# Altium footprint library SamacSys.PcbLib: 23 footprints (part 1 of 2)
Each footprint in its own frame and in the unit in brackets; x right, y up, seen from the top. Pads: shape width x height; smd on the part's side, far side on the other; paste and mask are expansions set on the pad; w line width, h text height; cw(c..) or ccw(c..) is an arc to the next point about the centre after c.
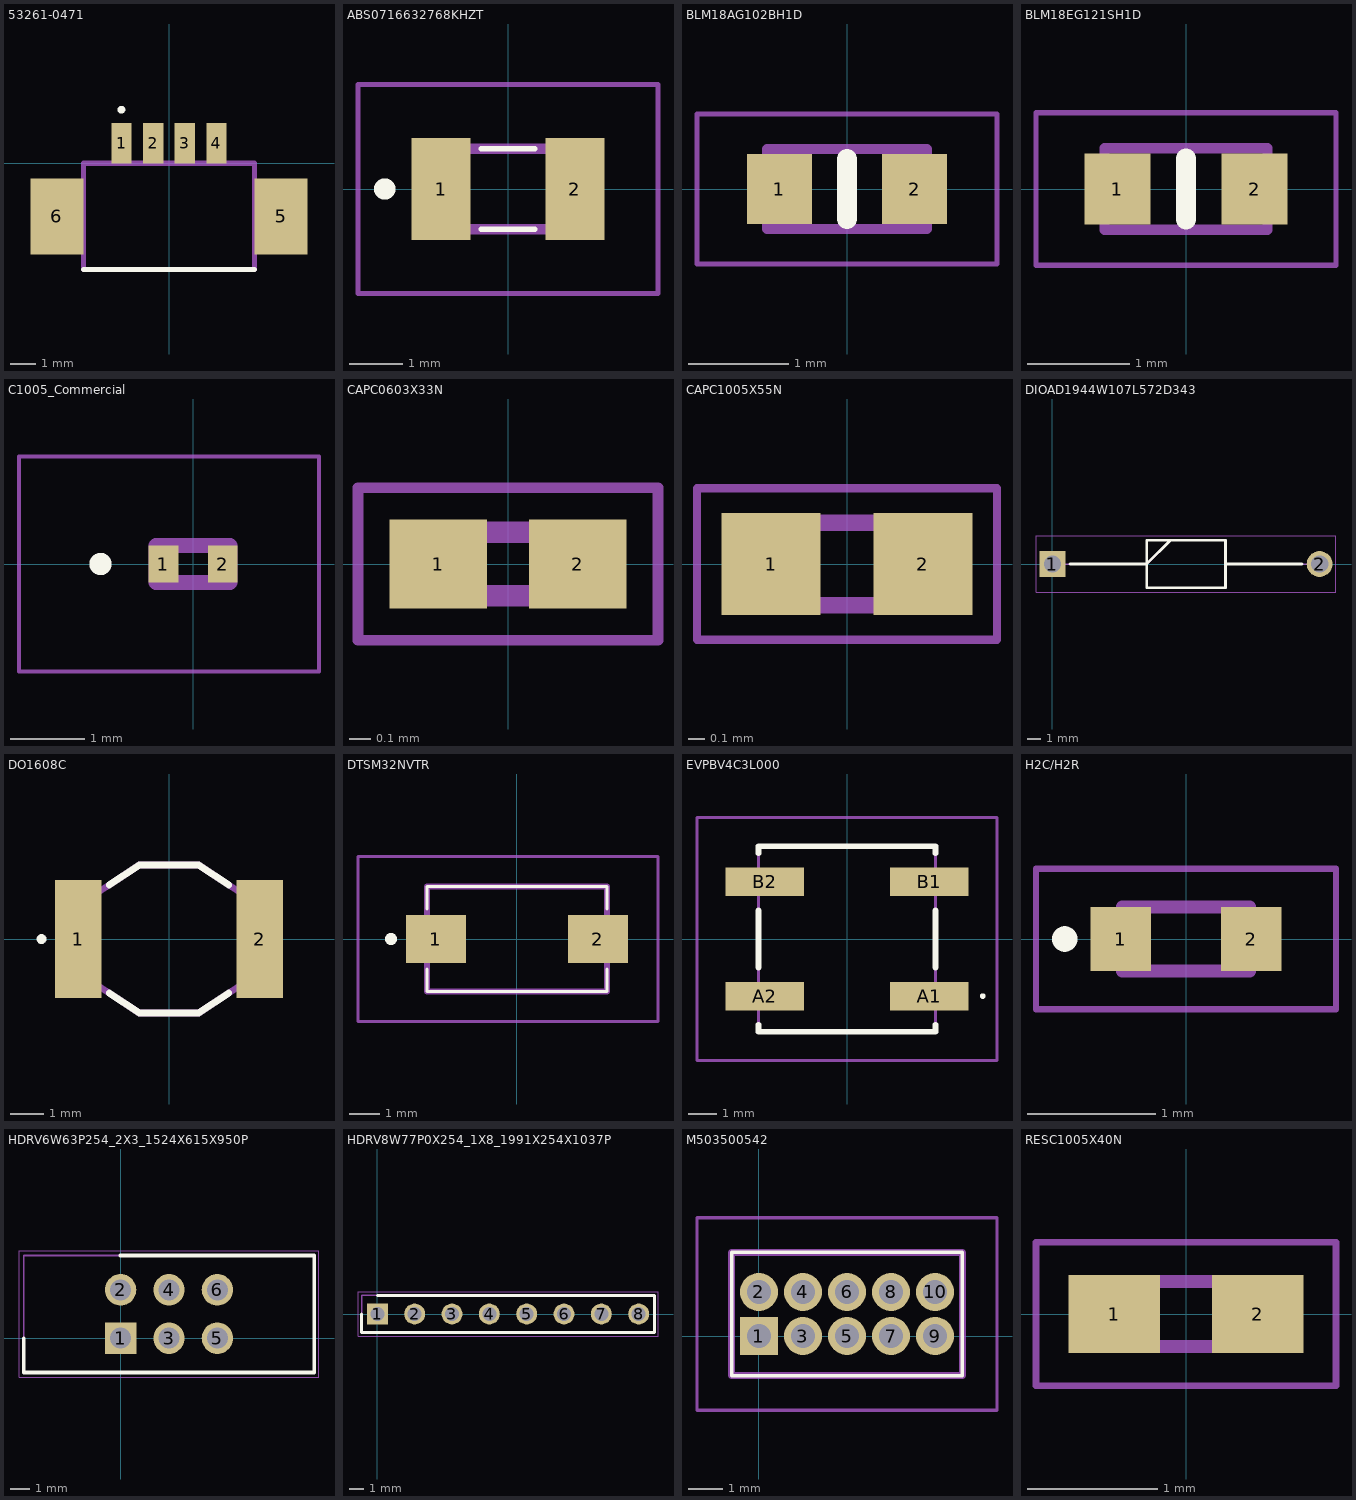
[diagram p0: the footprints below, top view; thin cyan lines are the x and y axes]

## 53261-0471 [mm]
pads (6):
  rect 0.8x1.6 smd: 1(-1.875,0.8) 2(-0.625,0.8) 3(0.625,0.8) 4(1.875,0.8)
  rect 2.1x3 smd: 5(4.425,-2.1) 6(-4.425,-2.1)
Top Overlay:
  circle w0.2: c-1.879,2.116 r0.052
  lines w0.2: -3.375,-4.2 3.375,-4.2
Mechanical 13:
  lines w0.2: -3.375,-4.2 -3.375,0 3.375,0 3.375,-4.2 -3.375,-4.2
3D body "53261-0471.stp": height 3.4, standoff 0, extent -5.075,-3.695 5.075,1.505

## ABS0716632768KHZT [mm]
pads (2):
  rect 1.1x1.9 smd: 1(-1.25,0) 2(1.25,0)
Top Overlay:
  lines w0.1: -0.5,-0.75 0.5,-0.75 ; -0.5,0.75 0.5,0.75
  lines w0.2: -2.3,-0.1 cw(c-2.3,0) -2.3,0.1 cw(c-2.3,0) -2.3,-0.1
Mechanical 13:
  lines w0.2: -1.6,-0.75 1.6,-0.75 1.6,0.75 -1.6,0.75 -1.6,-0.75
Mechanical 15:
  lines w0.1: -2.8,-1.95 2.8,-1.95 2.8,1.95 -2.8,1.95 -2.8,-1.95
3D body "ABS07-32.768KHZ-T.stp": height 0.9, standoff 0, extent -1.6,-0.75 1.6,0.75

## BLM18AG102BH1D [mm]
pads (2):
  rect 0.65x0.7 smd: 1(-0.675,0) 2(0.675,0)
Top Overlay:
  lines w0.2: 0,-0.3 0,0.3
Mechanical 13:
  lines w0.1: -0.8,-0.4 0.8,-0.4 0.8,0.4 -0.8,0.4 -0.8,-0.4
Mechanical 15:
  lines w0.05: -1.5,-0.75 1.5,-0.75 1.5,0.75 -1.5,0.75 -1.5,-0.75
3D body "BLM18PG471SN1B.stp": height 0.8, standoff 0, extent -0.8,-0.4 0.8,0.4

## BLM18EG121SH1D [mm]
pads (2):
  rect 0.65x0.7 smd: 1(-0.675,0) 2(0.675,0)
Top Overlay:
  lines w0.2: 0,-0.3 0,0.3
Mechanical 13:
  lines w0.1: -0.8,-0.4 -0.8,0.4 0.8,0.4 0.8,-0.4 -0.8,-0.4
Mechanical 15:
  lines w0.05: -1.475,-0.75 -1.475,0.75 1.475,0.75 1.475,-0.75 -1.475,-0.75
3D body "BLM18PG471SN1D.stp": height 0.8, standoff 0, extent -0.8,-0.4 0.8,0.4

## C1005_Commercial [mm]
pads (2):
  rect 0.4x0.5 smd: 1(-0.4,0) 2(0.4,0)
Top Overlay:
  circle w0.2: c-1.25,0 r0.05
Mechanical 13:
  lines w0.2: -0.5,-0.25 -0.5,0.25 0.5,0.25 0.5,-0.25 -0.5,-0.25
Mechanical 15:
  lines w0.05: -2.35,-1.45 -2.35,1.45 1.7,1.45 1.7,-1.45 -2.35,-1.45
3D body "C1005X5R0J335K050BC.stp": height 0.25, standoff -0.25, extent 0,-0.25 1,0.25

## CAPC0603X33N [mm]
pads (2):
  rect 0.46x0.42 smd: 1(-0.33,0) 2(0.33,0)
Mechanical 13:
  lines w0.1: -0.3,-0.15 -0.3,0.15 0.3,0.15 0.3,-0.15 -0.3,-0.15
Mechanical 15:
  lines w0.05: -0.71,-0.36 -0.71,0.36 0.71,0.36 0.71,-0.36 -0.71,-0.36
3D body "GRM0335C1H820JA01D.stp": height 0.33, standoff 0, extent -0.3,-0.15 0.3,0.15

## CAPC1005X55N [mm]
pads (2):
  rect 0.6x0.62 smd: 1(-0.46,0) 2(0.46,0)
Mechanical 13:
  lines w0.1: -0.5,-0.25 -0.5,0.25 0.5,0.25 0.5,-0.25 -0.5,-0.25
Mechanical 15:
  lines w0.05: -0.91,-0.46 -0.91,0.46 0.91,0.46 0.91,-0.46 -0.91,-0.46
3D body "GCM1555C1H150JA16D.stp": height 0.55, standoff 0, extent -0.5,-0.25 0.5,0.25

## DIOAD1944W107L572D343 [mm]
pads (2):
  rect 1.875x1.875 hole 1.25: 1(0,0)
  round 1.875 hole 1.25: 2(19.4,0)
Top Overlay:
  lines w0.2: 1.288,0 6.842,0 8.558,1.715 ; 12.558,0 18.112,0 ; 6.842,-1.715 6.842,1.715 12.558,1.715 12.558,-1.715 6.842,-1.715
Mechanical 13:
  lines w0.1: 0,0 6.842,0 8.557,1.715 ; 12.558,0 19.4,0 ; 6.842,-1.715 6.842,1.715 12.557,1.715 12.557,-1.715 6.842,-1.715
Mechanical 15:
  lines w0.05: -1.188,-2.065 -1.188,2.065 20.587,2.065 20.587,-2.065 -1.188,-2.065
3D body "1N5187.stp": height 3.94, standoff -3.94, extent -0.531,-1.967 19.97,1.967

## DO1608C [mm]
pads (2):
  rect 1.4x3.56 smd: 1(-2.73,0) 2(2.73,0)
Top Overlay:
  circle w0.2: c-3.832,-0.003 r0.048
  lines w0.2: -1.8,-1.625 -0.89,-2.225 0.89,-2.225 1.8,-1.625 ; -1.8,1.625 -0.89,2.225 0.89,2.225 1.8,1.625
Mechanical 13:
  lines w0.2: -3.3,-0.635 -3.3,0.635 -0.89,2.225 0.89,2.225 3.3,0.635 3.3,-0.635 0.89,-2.225 -0.89,-2.225 -3.3,-0.635

## DTSM32NVTR [mm]
pads (2):
  rect 2x1.6 smd: 1(-2.7,0) 2(2.7,0)
Top Overlay:
  lines w0.1: -3,-1 -3,-1.75 3,-1.75 3,-1 ; -3,1 -3,1.75 3,1.75 3,1
  lines w0.2: -4.2,-0.1 cw(c-4.2,0) -4.2,0.1 cw(c-4.2,0) -4.2,-0.1
Mechanical 13:
  lines w0.2: -3,-1.75 -3,1.75 3,1.75 3,-1.75 -3,-1.75
Mechanical 15:
  lines w0.1: -5.3,-2.75 -5.3,2.75 4.7,2.75 4.7,-2.75 -5.3,-2.75
3D body "DTSM-31N-V-T_R.stp": height 5.1, standoff 0, extent -3.54,-1.75 3.54,1.75

## EVPBV4C3L000 [mm]
pads (4):
  rect 2.75x1 smd: A1(2.875,-2) A2(-2.875,-2) B1(2.875,2) B2(-2.875,2)
Top Overlay:
  lines w0.1: 4.7,-2 cw(c4.75,-2) 4.8,-2 cw(c4.75,-2) 4.7,-2
  lines w0.2: -3.1,-3 -3.1,-3.25 3.1,-3.25 3.1,-3 ; -3.1,-1 -3.1,1 ; -3.1,3 -3.1,3.25 3.1,3.25 3.1,3 ; 3.1,-1 3.1,1
Mechanical 13:
  lines w0.1: -3.1,-3.25 -3.1,3.25 3.1,3.25 3.1,-3.25 -3.1,-3.25
Mechanical 15:
  lines w0.1: -5.25,-4.25 -5.25,4.25 5.25,4.25 5.25,-4.25 -5.25,-4.25
3D body "EVP-BV4C3L000.stp": height 4.4, standoff 0, extent -4.15,-3.25 4.15,3.25

## H2C/H2R [mm]
pads (2):
  rect 0.475x0.5 smd: 1(-0.512,0) 2(0.512,0)
Top Overlay:
  lines w0.1: -0.95,-0.05 ccw(c-0.95,0) -0.95,0.05 ccw(c-0.95,0) -0.95,-0.05
Mechanical 13:
  lines w0.1: -0.5,-0.25 -0.5,0.25 0.5,0.25 0.5,-0.25 -0.5,-0.25
Mechanical 15:
  lines w0.05: -1.175,-0.55 -1.175,0.55 1.175,0.55 1.175,-0.55 -1.175,-0.55
3D body "ERJ-H2RD1502X.stp": height 0.4, standoff 0, extent -0.5,-0.25 0.5,0.25

## HDRV6W63P254_2X3_1524X615X950P [mm]
pads (6):
  rect 1.65x1.65 hole 1.1: 1(0,0)
  round 1.65 hole 1.1: 2(0,2.54) 3(2.54,0) 4(2.54,2.54) 5(5.08,0) 6(5.08,2.54)
Top Overlay:
  lines w0.2: -5.08,0 -5.08,-1.805 10.16,-1.805 10.16,4.345 0,4.345
Mechanical 13:
  lines w0.1: -5.08,-1.805 10.16,-1.805 10.16,4.345 -5.08,4.345 -5.08,-1.805
Mechanical 15:
  lines w0.05: -5.33,-2.055 10.41,-2.055 10.41,4.595 -5.33,4.595 -5.33,-2.055
3D body "825440-3.stp": height 9.53, standoff -3.17, extent -1.27,-2.43 6.35,3.72

## HDRV8W77P0X254_1X8_1991X254X1037P [mm]
pads (8):
  rect 1.425x1.425 hole 0.95: 1(0,0)
  round 1.425 hole 0.95: 2(2.54,0) 3(5.08,0) 4(7.62,0) 5(10.16,0) 6(12.7,0) 7(15.24,0) 8(17.78,0)
Top Overlay:
  lines w0.2: -1.065,0 -1.065,-1.27 18.845,-1.27 18.845,1.27 0,1.27
Mechanical 13:
  lines w0.1: -1.065,-1.27 18.845,-1.27 18.845,1.27 -1.065,1.27 -1.065,-1.27
Mechanical 15:
  lines w0.05: -1.315,-1.52 19.095,-1.52 19.095,1.52 -1.315,1.52 -1.315,-1.52
3D body "87224-8.stp": height 10.37, standoff -3.18, extent -1.065,-1.27 18.845,1.27

## M503500542 [mm]
pads (10):
  rect 1.1x1.1 hole 0.7: 1(0,0)
  round 1.1 hole 0.7: 2(0,1.27) 3(1.27,0) 4(1.27,1.27) 5(2.54,0) 6(2.54,1.27) 7(3.81,0) 8(3.81,1.27) 9(5.08,0) 10(5.08,1.27)
Top Overlay:
  lines w0.1: -0.785,-1.14 -0.785,2.41 5.865,2.41 5.865,-1.14 -0.785,-1.14
Mechanical 13:
  lines w0.2: -0.785,-1.14 -0.785,2.41 5.865,2.41 5.865,-1.14 -0.785,-1.14
Mechanical 15:
  lines w0.1: -1.785,-2.14 -1.785,3.41 6.865,3.41 6.865,-2.14 -1.785,-2.14
3D body "M50-3500542.stp": height 3.95, standoff -2.35, extent -0.63,-1.06 5.72,2.34

## RESC1005X40N [mm]
pads (2):
  rect 0.7x0.6 smd: 1(-0.55,0) 2(0.55,0)
Mechanical 13:
  lines w0.1: -0.5,-0.25 -0.5,0.25 0.5,0.25 0.5,-0.25 -0.5,-0.25
Mechanical 15:
  lines w0.05: -1.15,-0.55 -1.15,0.55 1.15,0.55 1.15,-0.55 -1.15,-0.55
3D body "SFR01MZPJ183.stp": height 0.4, standoff 0, extent -0.5,-0.25 0.5,0.25